# Altium schematic symbol library LTC1093CSW#PBF.SchLib: 1 symbol
Pins are listed as number, name and electrical type; pins without a type are passive.

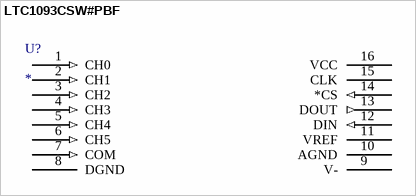
[diagram p0: symbol LTC1093CSW#PBF]

## LTC1093CSW#PBF
designator U?
6-Channel Single ADC SAR 26ksps 10-bit Serial 16-Pin SOIC W Tube; MF: Analog Devices; MP: LTC1093CSW#PBF; Check_prices: https://www.snapeda.com/parts/LTC1093CSW%23PBF/Analog+Devices/view-part/?ref=eda; Package: SOIC -16 Analog Devices; SnapEDA_Link: https://www.snapeda.com/parts/LTC1093CSW%23PBF/Analog+Devices/view-part/?ref=snap; Value: *; Purchase-URL: https://pricing.snapeda.com/search/part/LTC1093CSW#PBF/?ref=eda; Digi-Key_Part_Number: LTC1093CSW#PBF-ND
footprint SO-16_SW
pins: 1 CH0 (in), 2 CH1 (in), 3 CH2 (in), 4 CH3 (in), 5 CH4 (in), 6 CH5 (in), 7 COM (in), 8 DGND (power), 9 V- (power), 10 AGND (power), 11 VREF (power), 12 DIN (in), 13 DOUT (out), 14 *CS (in), 15 CLK, 16 VCC (power)